# EAGLE library part LS403_INPUT_CONNECTOR (library library)
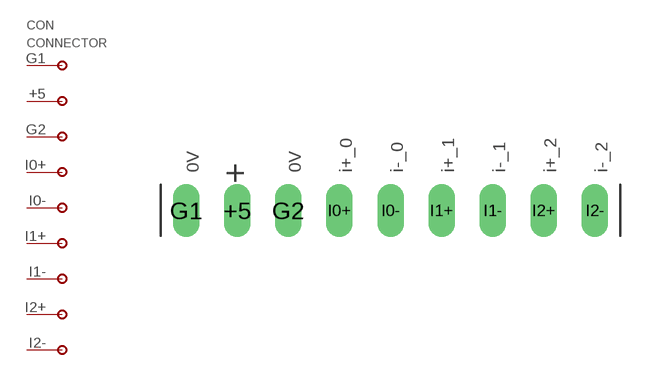
[diagram p2: symbol with the pads of LS403_INPUT_CONNECTOR; footprint LS403_INPUT_CONNECTOR]

Designator prefix CON

## LS403_INPUT_CONNECTOR  [LS403_INPUT_CONNECTOR]
+5  P$2
G1  P$1
G2  P$3
I0+  P$4
I0-  P$5
I1+  P$6
I1-  P$7
I2+  P$8
I2-  P$9

## Footprint LS403_INPUT_CONNECTOR (pad centres in mm)
drill 0.8 long: +5 1.27,0; G1 -1.27,0; G2 3.81,0; I0+ 6.35,0; I0- 8.89,0; I1+ 11.43,0; I1- 13.97,0; I2+ 16.51,0; I2- 19.05,0